# EAGLE library part LM324 (library testLib)
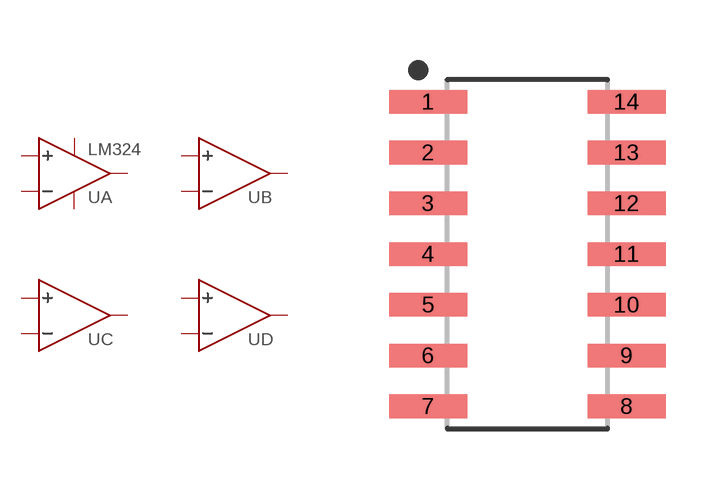
[diagram p3: symbol with the pads of SOIC127P600X175-14; footprint SOIC127P600X175-14]

Designator prefix U; gates A=OPAMP-P B=OPAMP C=OPAMP D=OPAMP

## LM324-14SOIC  [SOIC127P600X175-14]
1  A:VO
2  A:VI-
3  A:VI+
4  A:VCC  pwr
5  B:VI+
6  B:VI-
7  B:VO
8  C:VO
9  C:VI-
10  C:VI+
11  A:VEE  pwr
12  D:VI+
13  D:VI-
14  D:VO

## Footprint SOIC127P600X175-14 (pad centres in mm)
14-SOIC, 1.27 mm pitch, 6.00 mm span, 8.65 X 3.90 X 1.75 mm body 14-pin SOIC package with 1.27 mm pitch, 6.00 mm span with body size 8.65 X 3.90 X 1.75 mm
smd 1.952 x 0.589: 1 -2.482,3.81; 2 -2.482,2.54; 3 -2.482,1.27; 4 -2.482,0; 5 -2.482,-1.27; 6 -2.482,-2.54; 7 -2.482,-3.81; 8 2.482,-3.81; 9 2.482,-2.54; 10 2.482,-1.27; 11 2.482,0; 12 2.482,1.27; 13 2.482,2.54; 14 2.482,3.81